# Altium schematic symbol library TC2050.SchLib: 1 symbol
Pins are listed as number, name and electrical type; pins without a type are passive.

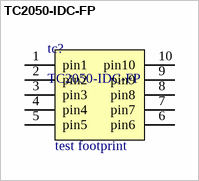
[diagram p0: symbol TC2050-IDC-FP]

## TC2050-IDC-FP
designator tc?  description: test footprint  (no BOM)
TC2050-IDC-FP test connector footprint; Datasheet: http://www.tag-connect.com/Materials/TC2050-IDC Datasheet.pdf; Manufacturer: http://www.tag-connect.com
footprint TC2050-IDC-FP (Footprint not found)
pins: 1 pin1, 2 pin2, 3 pin3, 4 pin4, 5 pin5, 6 pin6, 7 pin7, 8 pin8, 9 pin9, 10 pin10